# Altium integrated library SINGLE_FET_MOSFET.IntLib: 8 symbols
Pins are listed as number, name and electrical type; pins without a type are passive.

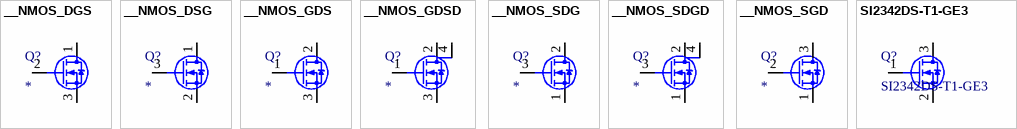
[diagram p0: symbols __NMOS_DGS to SI2342DS-T1-GE3]

## __NMOS_DGS
designator Q?
pins: 1 D, 2 G, 3 S

## __NMOS_DSG
designator Q?
pins: 1 D, 2 S, 3 G

## __NMOS_GDS
designator Q?
pins: 1 G, 2 D, 3 S

## __NMOS_GDSD
designator Q?
pins: 1 G, 2 D, 3 S, 4 D

## __NMOS_SDG
designator Q?
pins: 1 S, 2 D, 3 G

## __NMOS_SDGD
designator Q?
pins: 1 S, 2 D, 3 G, 4 D

## __NMOS_SGD
designator Q?
pins: 1 S, 2 G, 3 D

## SI2342DS-T1-GE3
designator Q?
MOSFET N-CH 8V 6A SOT-23; Manufacturer: Vishay; Rds On Max: 17mR; Input Capacitance: 1.07nF; Rise Time: 14ns; Max Power Dissipation: 2.5W; Turn-On Delay Time: 6ns; Turn-Off Delay Time: 65ns; Fall Time: 25ns; Gate to Source Voltage (Vgs): 4.5V; Polarity: N-CHANNEL; Number of Channels: 1; Supplier: Digi-Key; Supplier Part Number: SI2342DS-T1-GE3DKR-ND; Manufacturer Part Number: SI2342DS-T1-GE3; RoHS: Yes; Category: MOSFETs; Pricing: 1=0.51, 10=0.433, 100=0.3234, 500=0.2541, 1000=0.19635 (USD); Mounting Technology: Surface Mount; Case/Package: SOT-23; Weight: 0.000282oz; Min Operating Temperature: -55°C; Max Operating Temperature: 150°C; Packaging: Cut Tape; Package Quantity: 3000; Drain to Source Voltage (Vdss): 8V; Continuous Drain Current (ID): 6A; Series: TrenchFET®; Drain to Source Resistance: 17mR; Lead Free: Lead Free; RoHS Compliant: Yes; ComponentLink1URL: https://datasheet.ciiva.com/14905/si2342ds-14905257.pdf?src-supplier=Arrow+Electronics; ComponentLink1Description: https://datasheet.ciiva.com/14905/si2342ds-14905257.pdf?src-supplier=Arrow+Electronics; ComponentLink2URL: https://datasheet.ciiva.com/29746/si2342ds-29746581.pdf?src-supplier=Digi-Key; ComponentLink2Description: https://datasheet.ciiva.com/29746/si2342ds-29746581.pdf?src-supplier=Digi-Key; ComponentLink3URL: https://datasheet.ciiva.com/30021/si2342ds-30021814.pdf?src-supplier=Avnet; ComponentLink3Description: https://datasheet.ciiva.com/30021/si2342ds-30021814.pdf?src-supplier=Avnet
footprint FP-S-03946-IPC_A (MOSFET N-CH 8V 6A SOT-23)
footprint FP-S-03946-IPC_B (MOSFET N-CH 8V 6A SOT-23)
footprint FP-S-03946-IPC_C (MOSFET N-CH 8V 6A SOT-23)
pins: 1 G, 2 S, 3 D